# EAGLE library part 40106 (library custom-2002)
Puerta inversora Hex Schmitt Trigger
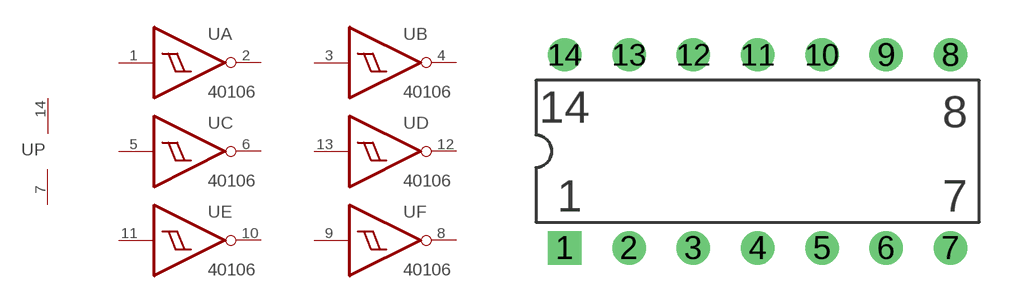
[diagram p6: symbol with the pads of DIL14; footprint DIL14]

Designator prefix U; gates A=40106 B=40106 C=40106 D=40106 E=40106 F=40106 P=VCC-GND

## 40106D  [DIL14]
1  A:I  in
2  A:O  out
3  B:I  in
4  B:O  out
5  C:I  in
6  C:O  out
7  P:GND  pwr
8  F:O  out
9  F:I  in
10  E:O  out
11  E:I  in
12  D:O  out
13  D:I  in
14  P:VCC  pwr

## Footprint DIL14 (pad centres in mm)
Zocalo de 2x7 pines estrecho
drill 0.813 square: 1 0,0
drill 0.813 round: 2 2.54,0; 3 5.08,0; 4 7.62,0; 5 10.16,0; 6 12.7,0; 7 15.24,0; 8 15.24,7.62; 9 12.7,7.62; 10 10.16,7.62; 11 7.62,7.62; 12 5.08,7.62; 13 2.54,7.62; 14 0,7.62